# EAGLE library part 2_9_PINHEAD_SMD (library 2_9_pinhead_smd)
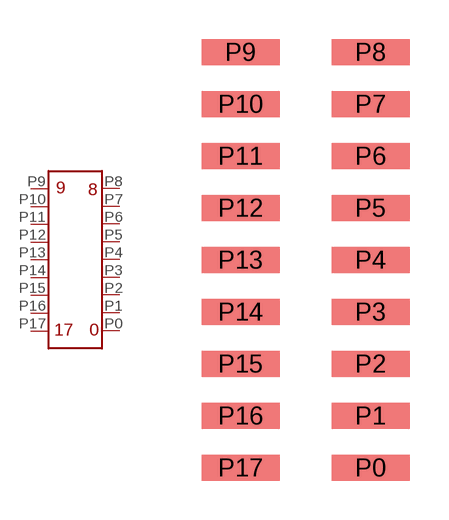
[diagram p0: symbol with the pads of 2_9_PINHEAD_SMD; footprint 2_9_PINHEAD_SMD]

Designator prefix -

## 2_9_PINHEAD_SMD  [2_9_PINHEAD_SMD]
P0  P0  pas
P1  P1  pas
P2  P2  pas
P3  P3  pas
P4  P4  pas
P5  P5  pas
P6  P6  pas
P7  P7  pas
P8  P8  pas
P9  P9  pas
P10  P10  pas
P11  P11  pas
P12  P12  pas
P13  P13  pas
P14  P14  pas
P15  P15  pas
P16  P16  pas
P17  P17  pas

## Footprint 2_9_PINHEAD_SMD (pad centres in mm)
smd 3 x 1: P0 2.5,-8; P1 2.5,-6; P2 2.5,-4; P3 2.5,-2; P4 2.5,0; P5 2.5,2; P6 2.5,4; P7 2.5,6; P8 2.5,8; P9 -2.5,8; P10 -2.5,6; P11 -2.5,4; P12 -2.5,2; P13 -2.5,0; P14 -2.5,-2; P15 -2.5,-4; P16 -2.5,-6; P17 -2.5,-8